# Altium schematic symbol library LT3652IMSE#PBF.SchLib: 1 symbol
Pins are listed as number, name and electrical type; pins without a type are passive.

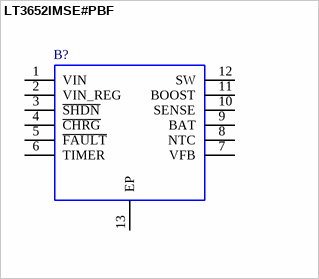
[diagram p0: symbol LT3652IMSE#PBF]

## LT3652IMSE#PBF
designator B?
Battery Management Power Tracking 2A Battery Charger for Solar Power; Manufacturer_Name: Analog Devices; Geometry.Height: 1.1mm; Mouser Part Number: 584-LT3652IMSE#PBF; Mouser Price/Stock: https://www.mouser.co.uk/ProductDetail/Analog-Devices/LT3652IMSEPBF?qs=hVkxg5c3xu%2FU%2FMmx%252BnQrjg%3D%3D; Manufacturer_Part_Number: LT3652IMSE#PBF; Datasheet Link: https://www.analog.com/media/en/technical-documentation/data-sheets/3652fe.pdf
footprint SOP65P490X110-13N
pins: 1 VIN, 2 VIN_REG, 3 ~{SHDN}, 4 ~{CHRG}, 5 ~{FAULT}, 6 TIMER, 7 VFB, 8 NTC, 9 BAT, 10 SENSE, 11 BOOST, 12 SW, 13 EP